# Altium footprint library MasterBoardRevA.PcbLib: 30 footprints (part 1 of 2)
Each footprint in its own frame and in the unit in brackets; x right, y up, seen from the top. Pads: shape width x height; smd on the part's side, far side on the other; paste and mask are expansions set on the pad; w line width, h text height; cw(c..) or ccw(c..) is an arc to the next point about the centre after c.
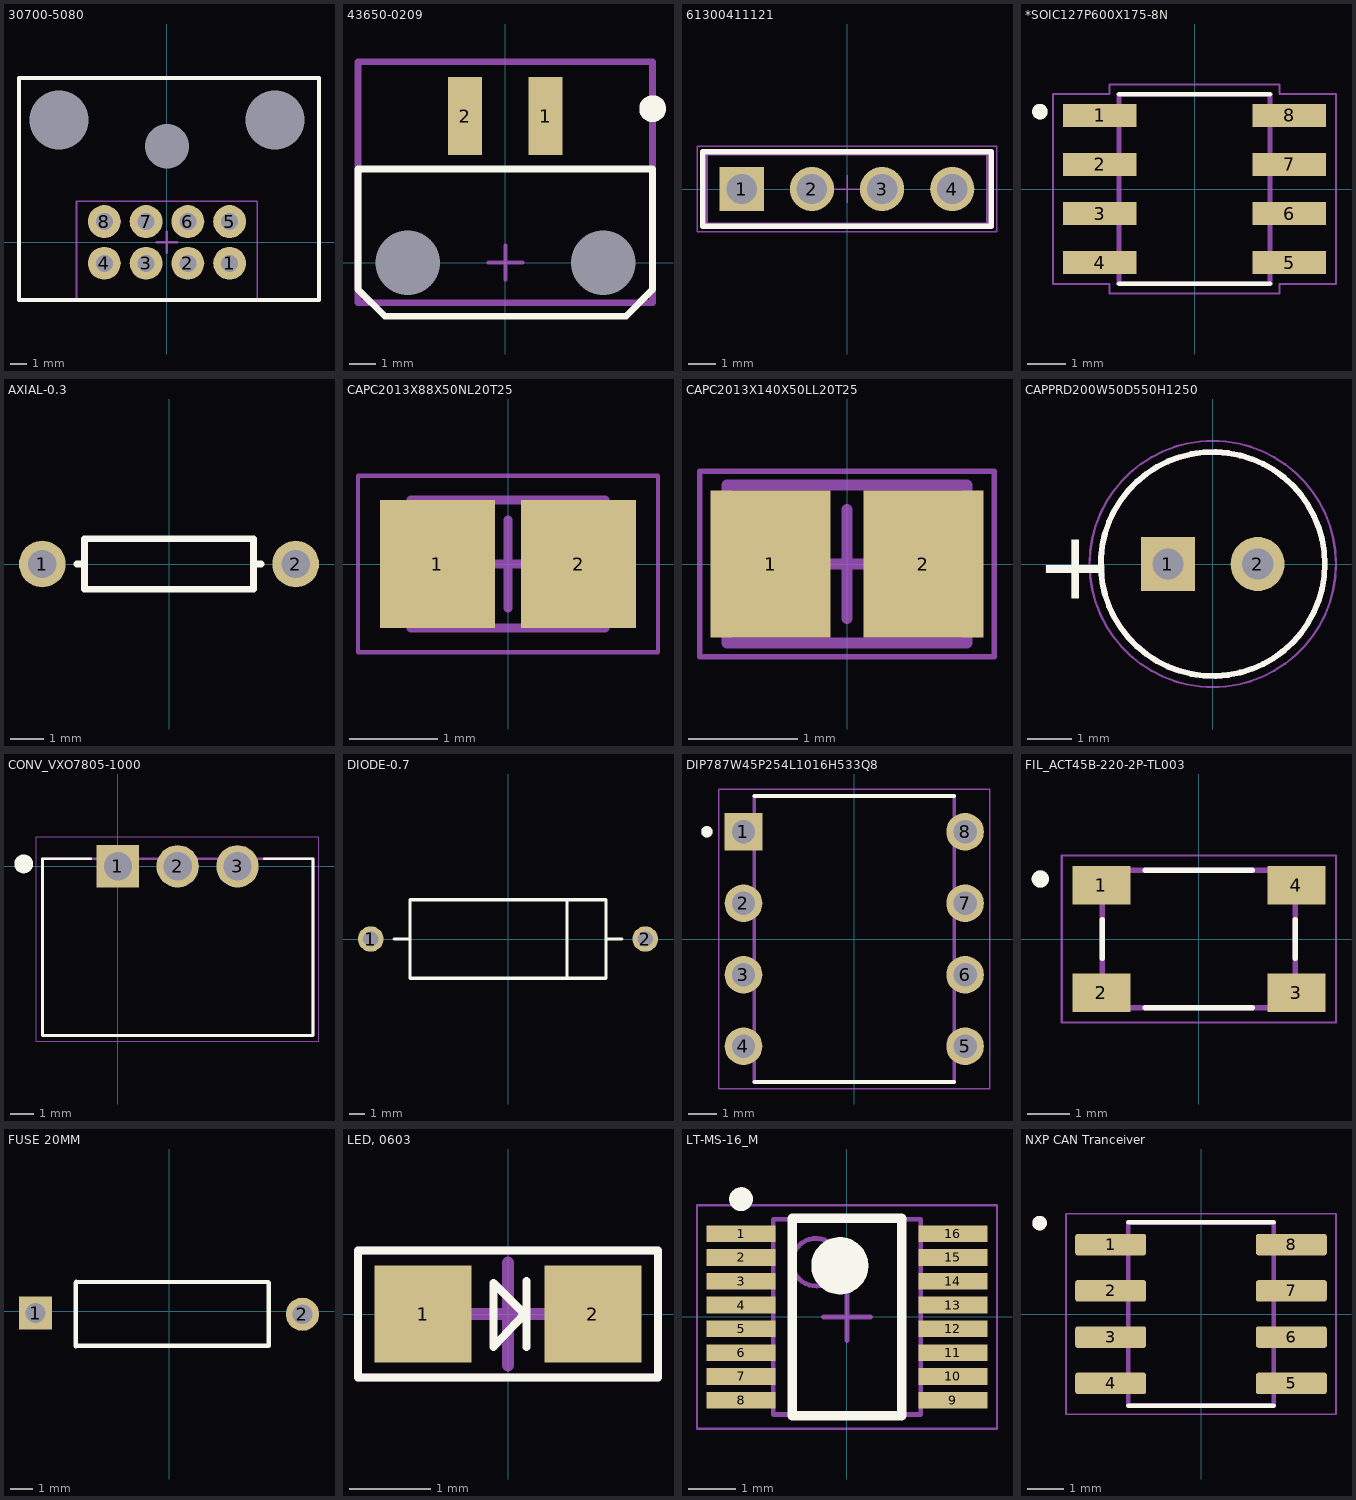
[diagram p0: the footprints below, top view; thin cyan lines are the x and y axes]

## 30700-5080 [mm]
pads (11):
  round 2 hole 1.04: 1(3.81,-1.27) 2(1.27,-1.27) 3(-1.27,-1.27) 4(-3.81,-1.27) 5(3.81,1.27) 6(1.27,1.27) 7(-1.27,1.27) 8(-3.81,1.27)
  round 0 hole 3.6 unplated: ""(-6.57,7.44)
  round 0 hole 2.7 unplated: ""(0,5.84)
  round 3 hole 3.6 unplated: ""(6.57,7.44)
Top Overlay:
  lines w0.254: -9,-3.5 9.25,-3.5 9.25,10 -9,10 -9,-3.5
Mechanical 15:
  lines w0.1: -5.5,-3.5 5.5,-3.5 5.5,2.5 -5.5,2.5 -5.5,-3.5
  lines w0.152: -0.635,0 0.635,0 ; 0,-0.635 0,0.635
3D body "307005080.stp": height 18.06, standoff -4.76, extent -8.886,-2.75 9.25,24.31

## 43650-0209 [mm]
pads (4):
  rect 1.27x2.92 smd: 1(1.5,5.47) 2(-1.5,5.47)
  round 0 hole 2.41 unplated: ""(-3.65,0) ""(3.65,0)
Top Overlay:
  circle w0.6: c5.5,5.75 r0.2
  lines w0.254: -5.5,-1 -5.5,3.5 5.5,3.5 5.5,-1 4.5,-2 -4.5,-2 -5.5,-1
Mechanical 15:
  lines w0.152: -0.635,0 0.635,0 ; 0,-0.635 0,0.635
  lines w0.254: -5.5,-1.5 5.5,-1.5 5.5,7.5 2,7.5 -5.5,7.5 -5.5,-1.5
3D body "436500209.stp": height 5.64, standoff -1.97, extent -4.825,-4.6 4.825,6.14

## 61300411121 [mm]
pads (4):
  rect 1.6x1.6 hole 1.1: 1(-3.81,0)
  round 1.6 hole 1.1: 2(-1.27,0) 3(1.27,0) 4(3.81,0)
Top Overlay:
  lines w0.2: -5.23,-1.345 -5.23,1.345 5.23,1.345 5.23,-1.345 -5.23,-1.345
Mechanical 13:
  lines w0.1: -5.08,-1.27 5.08,-1.27 5.08,1.27 -5.08,1.27 -5.08,-1.27
Mechanical 15:
  lines w0.05: -0.5,0 0.5,0 ; 0,-0.5 0,0.5 ; -5.43,-1.545 5.43,-1.545 5.43,1.545 -5.43,1.545 -5.43,-1.545
3D body "61300411121.stp": height 8.57, standoff -2.97, extent -5.08,-1.27 5.08,1.27

## *SOIC127P600X175-8N [mm]
pads (8):
  rect 1.9x0.6 smd: 1(-2.455,1.905) 2(-2.455,0.635) 3(-2.455,-0.635) 4(-2.455,-1.905) 5(2.455,-1.905) 6(2.455,-0.635) 7(2.455,0.635) 8(2.455,1.905)
Top Overlay:
  circle w0.2: c-4,2 r0.1
  lines w0.127: -1.95,-2.45 1.95,-2.45 ; -1.95,2.45 1.95,2.45
Mechanical 4:
  circle w0.2: c-4,2 r0.1
  circle w0.2: c-4,2 r0.1
  lines w0.127: -1.95,-2.45 -1.95,2.45 ; -1.95,-2.45 1.95,-2.45 ; -1.95,-2.45 -1.95,2.45 ; -1.95,-2.45 1.95,-2.45 ; -1.95,2.45 1.95,2.45 ; -1.95,2.45 1.95,2.45 ; 1.95,-2.45 1.95,2.45 ; 1.95,-2.45 1.95,2.45
Mechanical 16:
  lines w0.05: -3.66,-2.46 -2.2,-2.46 -2.2,-2.7 2.2,-2.7 2.2,-2.46 3.66,-2.46 3.66,2.46 2.2,2.46 2.2,2.7 -2.2,2.7 -2.2,2.46 -3.66,2.46 -3.66,-2.46

## AXIAL-0.3 [mm]
pads (2):
  round 1.4 hole 0.85: 1(-3.81,0) 2(3.81,0)
Top Overlay:
  lines w0.2: -2.769,0 -2.54,0 ; 2.769,0 2.54,0 ; 2.54,0 2.54,-0.762 -2.54,-0.762 -2.54,0.762 2.54,0.762 2.54,0

## CAPC2013X88X50NL20T25 [mm]
pads (2):
  rect 1.3x1.45 smd: 1(-0.8,0) 2(0.8,0)
Mechanical 13:
  lines w0.1: -1.1,-0.725 -1.1,0.725 1.1,0.725 1.1,-0.725 -1.1,-0.725
Mechanical 15:
  lines w0.05: -1.7,-1 -1.7,1 1.7,1 1.7,-1 -1.7,-1
  lines w0.1: -0.5,0 0.5,0 ; 0,-0.5 0,0.5
3D body: height 0.88, standoff 0, extent -0.6,-0.725 0.6,0.725
3D body: height 0.88, standoff 0, extent -1.1,-0.725 -0.6,0.725
3D body: height 0.88, standoff 0, extent 0.6,-0.725 1.1,0.725

## CAPC2013X140X50LL20T25 [mm]
pads (2):
  rect 1.1x1.35 smd: 1(-0.7,0) 2(0.7,0)
Mechanical 13:
  lines w0.1: -1.1,-0.725 1.1,-0.725 1.1,0.725 -1.1,0.725 -1.1,-0.725
Mechanical 15:
  lines w0.05: -1.35,-0.85 1.35,-0.85 1.35,0.85 -1.35,0.85 -1.35,-0.85
  lines w0.1: -0.5,0 0.5,0 ; 0,-0.5 0,0.5
3D body: height 1.4, standoff 0, extent 0.6,-0.725 1.1,0.725
3D body: height 1.4, standoff 0, extent -1.1,-0.725 -0.6,0.725
3D body: height 1.4, standoff 0, extent -0.6,-0.725 0.6,0.725

## CAPPRD200W50D550H1250 [mm]
pads (2):
  rect 1.208x1.208 hole 0.7: 1(-1,0)
  round 1.208 hole 0.7: 2(1,0)
Top Overlay:
  circle w0.127: c0,0 r2.5
  text "+" at -3.946,-0.775 h1.52
Mechanical 1:
Mechanical 13:
  circle w0.127: c0,0 r2.5
Mechanical 15:
  circle w0.05: c0,0 r2.75
3D body "cpol-v_p2_d5-25_h11.stp": height 11.01, standoff -3.35, extent -2.65,-2.725 2.606,2.525

## CONV_VXO7805-1000 [mm]
pads (3):
  rect 1.8x1.8 hole 1.2: 1(0,0)
  round 1.8 hole 1.2: 2(2.54,0) 3(5.08,0)
Top Overlay:
  circle w0.4: c-4,0.1 r0.2
  lines w0.127: -1.154,0.32 -3.21,0.32 -3.21,-7.18 8.29,-7.18 8.29,0.32 6.234,0.32
Mechanical 1:
  lines w0.05: -3.46,-7.43 8.54,-7.43 8.54,1.254 -3.46,1.254 -3.46,-7.43
  lines w0.127: -3.21,-7.18 8.29,-7.18 8.29,0.32 -3.21,0.32 -3.21,-7.18
3D body "CUI_VXO7805-1000.step": height 17.5, standoff -4.1, extent -3.118,-6.761 8.382,0.32

## DIODE-0.7 [mm]
pads (2):
  round 1.65 hole 1: 1(-8.89,0) 2(8.89,0)
Top Overlay:
  lines w0.2: -7.366,0 -6.35,0 ; 3.81,-2.54 3.81,2.54 ; 6.35,0 7.366,0 ; -6.35,-2.54 -6.35,2.54 6.35,2.54 6.35,-2.54 -6.35,-2.54

## DIP787W45P254L1016H533Q8 [mm]
pads (8):
  rect 1.338x1.338 hole 0.83: 1(-3.937,3.81)
  round 1.338 hole 0.83: 2(-3.937,1.27) 3(-3.937,-1.27) 4(-3.937,-3.81) 5(3.937,-3.81) 6(3.937,-1.27) 7(3.937,1.27) 8(3.937,3.81)
Top Overlay:
  circle w0.2: c-5.238,3.81 r0.1
  lines w0.127: -3.556,-5.08 3.556,-5.08 ; -3.556,5.08 3.556,5.08
Mechanical 13:
  circle w0.2: c-5.238,3.81 r0.1
  lines w0.127: -3.556,-5.08 -3.556,5.08 3.556,5.08 3.556,-5.08 -3.556,-5.08
Mechanical 15:
  lines w0.05: -4.82,-5.33 -4.82,5.33 4.82,5.33 4.82,-5.33 -4.82,-5.33
3D body "P.STEP": height 5.52, standoff -3.62, extent -3.937,-4.699 3.937,4.572

## FIL_ACT45B-220-2P-TL003 [mm]
pads (4):
  rect 1.35x0.9 smd: 1(-2.275,1.25) 2(-2.275,-1.25) 3(2.275,-1.25) 4(2.275,1.25)
Top Overlay:
  circle w0.2: c-3.7,1.4 r0.1
  lines w0.127: -2.25,-0.45 -2.25,0.45 ; -1.25,-1.6 1.25,-1.6 ; -1.25,1.6 1.25,1.6 ; 2.25,-0.45 2.25,0.45
Mechanical 13:
  circle w0.2: c-3.7,1.4 r0.1
  lines w0.127: -2.25,-1.6 -2.25,1.6 2.25,1.6 2.25,-1.6 -2.25,-1.6
Mechanical 15:
  lines w0.05: -3.2,-1.95 -3.2,1.95 3.2,1.95 3.2,-1.95 -3.2,-1.95

## FUSE 20MM [mm]
pads (2):
  rect 1.5x1.5 hole 0.9: 1(-6.02,-0.076)
  round 1.5 hole 0.9: 2(6.02,-0.127)
Top Overlay:
  lines w0.2: -4.216,-1.578 -4.216,-0.878 -4.216,0.522 -4.216,1.295 ; -4.216,-1.553 4.496,-1.549 ; -4.191,1.346 4.47,1.32 ; 4.496,-1.527 4.496,-0.809 4.496,0.577 4.496,1.295

## LED, 0603 [mm]
pads (2):
  rect 1.2x1.2 smd: 1(-1.05,0) 2(1.05,0)
Top Overlay:
  lines w0.1: 0.229,-0.406 0.229,0.406 ; -1.854,-0.787 1.854,-0.787 1.854,0.787 -1.854,0.787 -1.854,-0.787 ; -0.178,-0.406 -0.178,0.381 0.203,0 -0.178,-0.406
Mechanical 15:
  lines w0.1: -1.854,-0.787 -1.854,0.787 1.854,0.787 1.854,-0.787 -1.854,-0.787
  lines w0.152: -0.635,0 0.635,0 ; 0,-0.635 0,0.635
3D body "User Library-led_0805.step": height 1.1, standoff 0, extent -1.004,-0.631 1.016,0.619

## LT-MS-16_M [mm]
pads (16):
  rect 1.45x0.35 smd: 1(-2.225,1.75) 2(-2.225,1.25) 3(-2.225,0.75) 4(-2.225,0.25) 5(-2.225,-0.25) 6(-2.225,-0.75) 7(-2.225,-1.25) 8(-2.225,-1.75) 9(2.225,-1.75) 10(2.225,-1.25) 11(2.225,-0.75) 12(2.225,-0.25) 13(2.225,0.25) 14(2.225,0.75) 15(2.225,1.25) 16(2.225,1.75)
Top Overlay:
  circle w0.25: c-2.225,2.475 r0.125
  circle w0.6: c-0.15,1.075 r0.3
  lines w0.2: -1.15,-2.075 -1.15,2.075 1.15,2.075 1.15,-2.075 -1.15,-2.075
Mechanical 13:
  circle w0.1: c-0.65,1.15 r0.5
  lines w0.1: -1.55,-2.05 -1.55,2.05 1.55,2.05 1.55,-2.05 -1.55,-2.05
Mechanical 15:
  lines w0.05: -3.15,-2.35 -3.15,2.35 3.15,2.35 3.15,-2.35 -3.15,-2.35
  lines w0.1: -0.5,0 0.5,0 ; 0,-0.5 0,0.5
3D body: height 1.1, standoff 0.1, extent -1.55,-2.05 1.55,2.05

## NXP CAN Tranceiver [mm]
pads (8):
  rrect25% 1.95x0.59 smd: 1(-2.48,1.905) 2(-2.48,0.635) 3(-2.48,-0.635) 4(-2.48,-1.905) 5(2.48,-1.905) 6(2.48,-0.635) 7(2.48,0.635) 8(2.48,1.905)
Top Overlay:
  circle w0.2: c-4.43,2.495 r0.1
  lines w0.127: -2,-2.52 2,-2.52 ; -2,2.52 2,2.52
Mechanical 13:
  circle w0.2: c-4.43,2.495 r0.1
  lines w0.127: -2,-2.5 -2,2.5 2,2.5 2,-2.5 -2,-2.5
Mechanical 15:
  lines w0.05: -3.705,-2.75 -3.705,2.75 3.705,2.75 3.705,-2.75 -3.705,-2.75
3D body "1J.STEP": height 1.75, standoff 0, extent -2.873,-2.45 3.127,2.45